# Altium integrated library KCD1-101.IntLib: 1 symbol
Pins are listed as number, name and electrical type; pins without a type are passive.

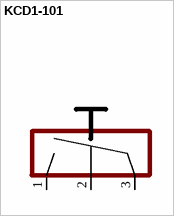
[diagram p0: symbol KCD1-101]

## KCD1-101
designator ?
footprint KCD1-101
pins: 1 OUT-, 2 OUT+, 3 IN+